# EAGLE library part PRO_MINI (library MTS-OTR_Custom)
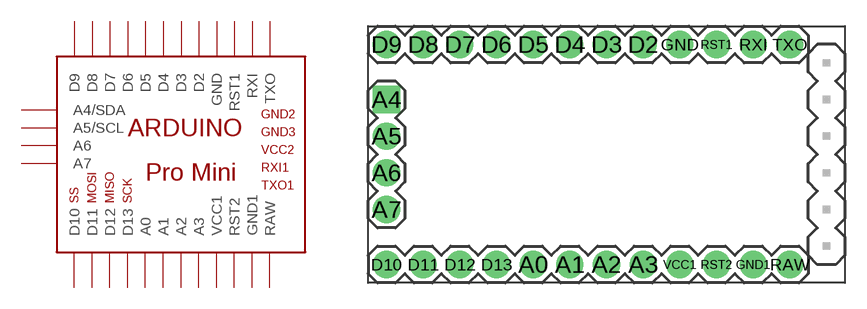
[diagram p26: symbol with the pads of PRO_MINI; footprint PRO_MINI]

Designator prefix -

## PRO_MINI  [PRO_MINI]
A0  A0
A1  A1
A2  A2
A3  A3
A4  A4/SDA
A5  A5/SCL
A6  A6  nc
A7  A7  out
D2  D2
D3  D3
D4  D4
D5  D5
D6  D6
D7  D7
D8  D8
D9  D9
D10  D10
D11  D11
D12  D12
D13  D13
GND  GND  pwr
GND1  GND1  pwr
RAW  RAW  pwr
RST1  RST1
RST2  RST2
RXI  RXI
TXO  TXO
VCC1  VCC1  pwr

## Footprint PRO_MINI (pad centres in mm)
drill 1.016 pad 1.88: A0 -5.08,-7.62; A1 -2.54,-7.62; A2 0,-7.62; A3 2.54,-7.62; A5 -15.24,1.27; A6 -15.24,-1.27; A7 -15.24,-3.81; D2 2.54,7.62; D3 0,7.62; D4 -2.54,7.62; D5 -5.08,7.62; D6 -7.62,7.62; D7 -10.16,7.62; D8 -12.7,7.62; D9 -15.24,7.62; D10 -15.24,-7.62; D11 -12.7,-7.62; D12 -10.16,-7.62; D13 -7.62,-7.62; GND 5.08,7.62; GND1 10.16,-7.62; RAW 12.7,-7.62; RST1 7.62,7.62; RST2 7.62,-7.62; RXI 10.16,7.62; TXO 12.7,7.62; VCC1 5.08,-7.62
drill 1.016 pad 1.88 square: A4 -15.24,3.81